# EAGLE library part BMA150 (library bosch-sensor)
BMA150 Triaxial ±2g/±4g/±8g acceleration sensor
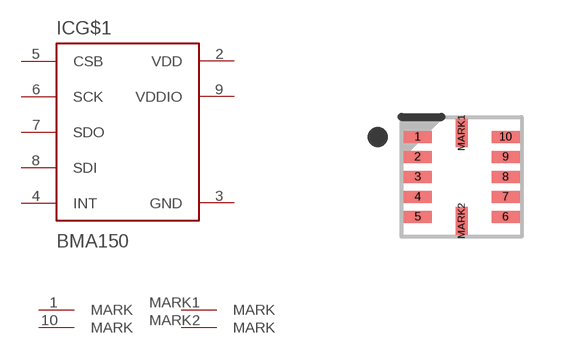
[diagram p2: symbol with the pads of PQFN50P300X300X100-12N; footprint PQFN50P300X300X100-12N]

Designator prefix IC; gates G$1=SMB380 G$2=MARK G$3=MARK G$4=MARK G$5=MARK

## BMA150  [PQFN50P300X300X100-12N]
1  G$2:MARK  nc
2  G$1:VDD  pwr
3  G$1:GND  pwr
4  G$1:INT  out
5  G$1:CSB  in
6  G$1:SCK  in
7  G$1:SDO  out
8  G$1:SDI  in
9  G$1:VDDIO  pwr
10  G$3:MARK  nc
MARK1  G$4:MARK  nc
MARK2  G$5:MARK  nc

## Footprint PQFN50P300X300X100-12N (pad centres in mm)
IPC7351A / LGA12 / BMA150
smd 0.7 x 0.3: 1 -1.1,1; 2 -1.1,0.5; 3 -1.1,0; 4 -1.1,-0.5; 5 -1.1,-1; 6 1.1,-1; 7 1.1,-0.5; 8 1.1,0; 9 1.1,0.5; 10 1.1,1
smd 0.3 x 0.7: MARK1 0,1.1; MARK2 0,-1.1